# Altium footprint library Revo_element.PcbLib: 178 footprints (part 1 of 12)
Each footprint in its own frame and in the unit in brackets; x right, y up, seen from the top. Pads: shape width x height; smd on the part's side, far side on the other; paste and mask are expansions set on the pad; w line width, h text height; cw(c..) or ccw(c..) is an arc to the next point about the centre after c.
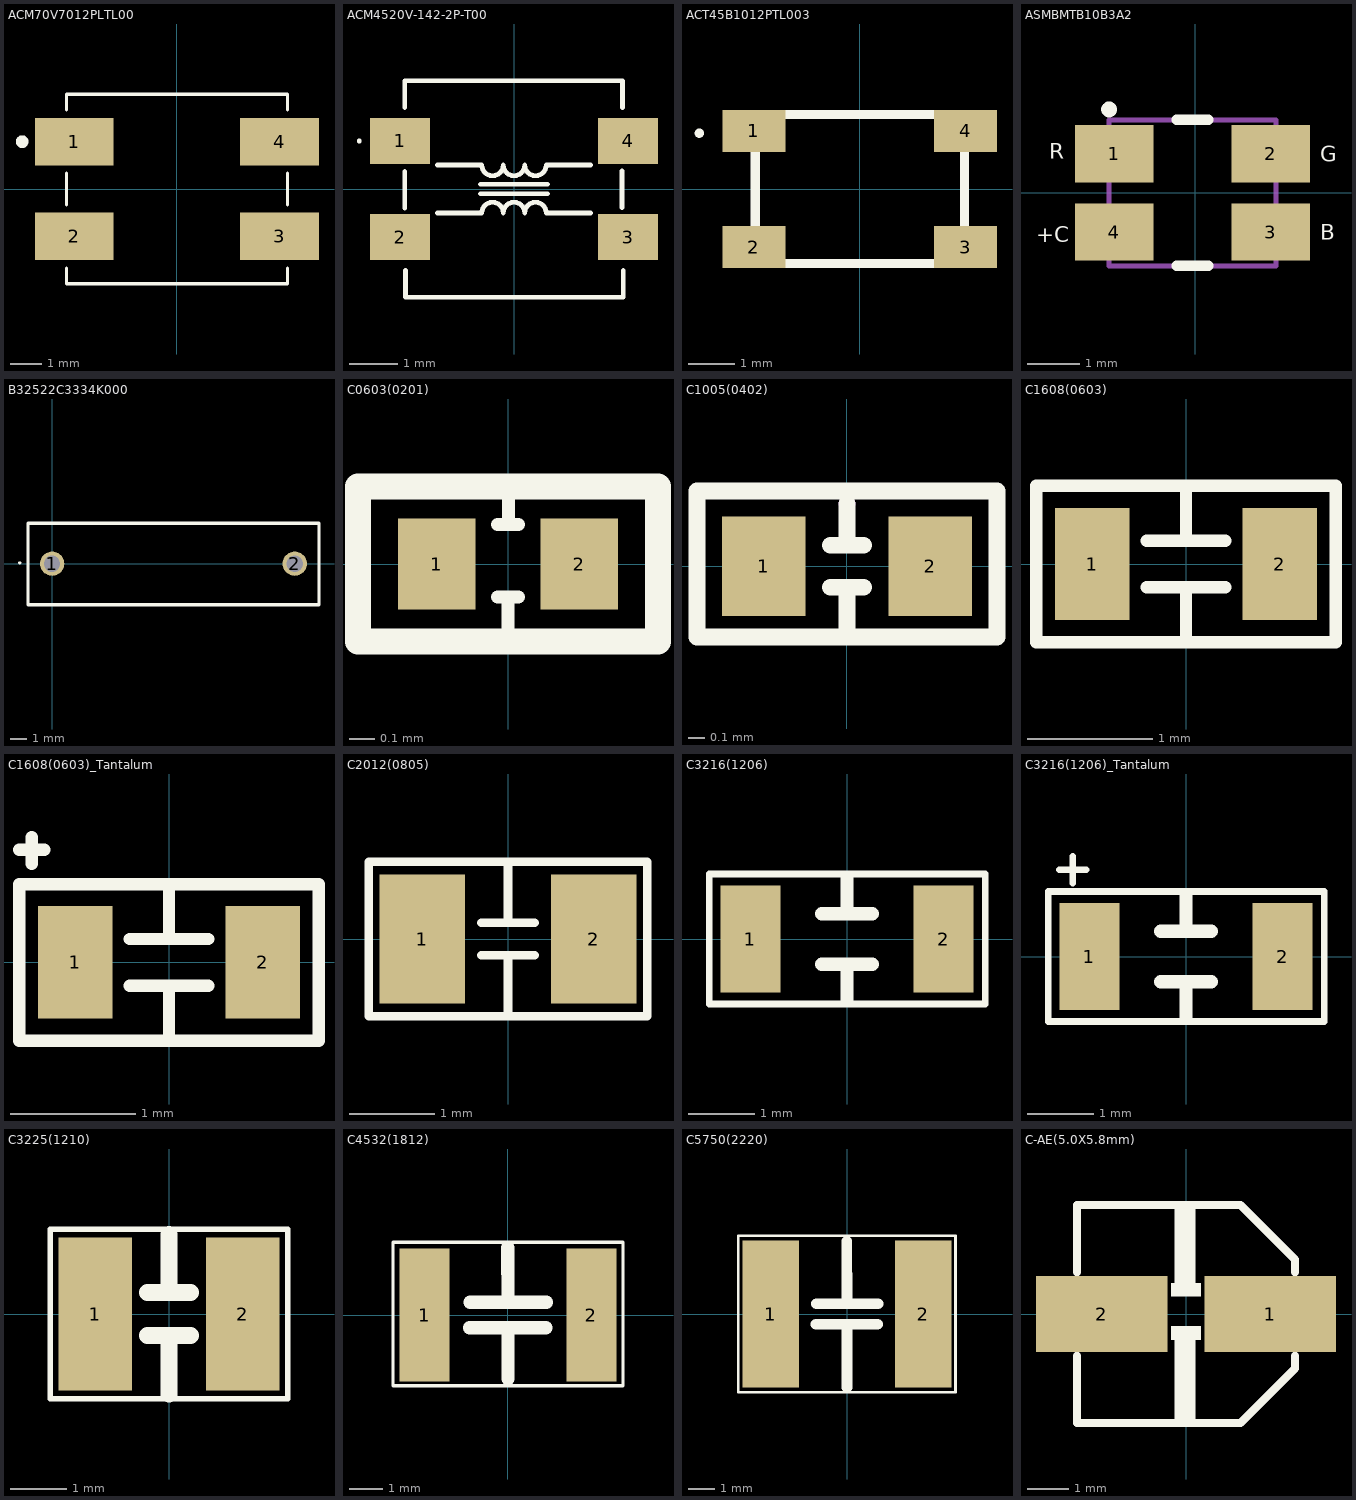
[diagram p0: the footprints below, top view; thin cyan lines are the x and y axes]

## ACM70V7012PLTL00 [mm]
pads (4):
  rect 2.5x1.5 smd: 1(-3.25,1.5) 2(-3.25,-1.5) 3(3.25,-1.5) 4(3.25,1.5)
Top Overlay:
  lines w0.1: -3.5,-2.5 -3.5,-3 3.5,-3 3.5,-2.5 ; -3.5,-0.5 -3.5,0.5 ; -3.5,2.5 -3.5,3 3.5,3 3.5,2.5 ; 3.5,-0.5 3.5,0.5
  lines w0.2: -4.9,1.4 cw(c-4.9,1.5) -4.9,1.6 cw(c-4.9,1.5) -4.9,1.4
3D body "ACM70V-701-2PL-TL00.stp": height 3.35, standoff 0, extent -3.553,-3.003 3.447,2.997

## ACM4520V-142-2P-T00 [mm]
pads (4):
  rect 1.25x0.95 smd: 1(-2.375,1) 2(-2.375,-1) 3(2.375,-1) 4(2.375,1)
Top Overlay:
  lines w0.05: -3.25,1 ccw(c-3.225,1) -3.2,1 ccw(c-3.225,1) -3.25,1
  lines w0.1: -2.275,-0.4 -2.275,0.362 ; -2.275,1.7 -2.275,2.254 2.258,2.254 2.258,1.7 ; -2.258,-1.7 -2.258,-2.254 2.275,-2.254 2.275,-1.7 ; -1.6,-0.5 -0.671,-0.5 cw(c-0.447,-0.5) -0.224,-0.5 cw(c0,-0.5) 0.224,-0.5 cw(c0.447,-0.5) 0.671,-0.5 1.6,-0.5 ; -1.6,0.5 -0.671,0.5 ccw(c-0.447,0.5) -0.224,0.5 ccw(c0,0.5) 0.224,0.5 ccw(c0.447,0.5) 0.671,0.5 1.6,0.5 ; -0.7,-0.1 0.7,-0.1 ; -0.7,0.1 0.7,0.1 ; 2.251,-0.385 2.251,0.376
3D body "ACM4520V-142-2P-T00.stp": height 1.9, standoff 0.01, extent -2.369,-2.248 2.331,2.252

## ACT45B1012PTL003 [mm]
pads (4):
  rect 1.35x0.9 smd: 1(-2.275,1.25) 2(-2.275,-1.25) 3(2.275,-1.25) 4(2.275,1.25)
Top Overlay:
  lines w0.1: -3.5,1.2 cw(c-3.45,1.2) -3.4,1.2 cw(c-3.45,1.2) -3.5,1.2
  lines w0.2: -2.25,-1.6 -2.25,1.6 2.25,1.6 2.25,-1.6 -2.25,-1.6
3D body "ACT45B-510-2P-TL003.stp": height 2.8, standoff 0, extent -2.224,-1.602 2.276,1.598

## ASMBMTB10B3A2 [mm]
pads (4):
  rect 1.5x1.1 smd: 1(-1.55,0.75) 2(1.45,0.75) 3(1.45,-0.75) 4(-1.55,-0.75)
Top Overlay:
  lines w0.2: -0.35,-1.4 0.25,-1.4 ; -0.35,1.4 0.25,1.4 ; -1.7,1.6 ccw(c-1.65,1.6) -1.6,1.6 ; -1.7,1.6 cw(c-1.65,1.6) -1.6,1.6 ; -1.7,1.6 ccw(c-1.65,1.6) -1.6,1.6
  text "R" at -2.8,0.65 h0.3
  text "G" at 2.4,0.6 h0.3
  text "+C" at -3.05,-0.95 h0.3
  text "B" at 2.4,-0.9 h0.3
Mechanical 13:
  lines w0.1: -1.65,-1.4 1.55,-1.4 1.55,1.4 -1.65,1.4 -1.65,-1.4
3D body "ASMB-MTB1-0B3A2.stp": height 1.9, standoff 0, extent -1.786,-1.4 1.686,1.4

## B32522C3334K000 [mm]
pads (2):
  round 1.5 hole 1: 1(0,0) 2(15,0)
Top Overlay:
  lines w0.1: -2,0 ccw(c-2,0.05) -2,0.1 ccw(c-2,0.05) -2,0
  lines w0.2: -1.5,-2.54 16.5,-2.54 16.5,2.5 -1.5,2.5 -1.5,-2.54
Mechanical 13:
  lines w0.1: -1.5,-2.5 16.5,-2.5 16.5,2.5 -1.5,2.5 -1.5,-2.5
3D body "B32522C3334K000.stp": height 10.41, standoff -6.09, extent -1.5,-2.5 16.5,2.5

## C0603(0201) [mm] "Chip Capacitor 0603(0201)"
pads (2):
  rect 0.3x0.35 smd: 1(-0.275,0) 2(0.275,0)
Top Overlay:
  lines w0.05: -0.04,-0.127 0.04,-0.127 ; -0.04,0.152 0.04,0.152 ; 0,-0.252 0,-0.127 ; 0.002,0.152 0.002,0.277
  lines w0.1: -0.58,-0.3 0.58,-0.3 0.58,0.3 -0.58,0.3 -0.58,-0.3
3D body "User Library-SMD CAPACITOR.step": height 0.29, standoff -0.01, extent -0.3,-0.15 0.3,0.15

## C1005(0402) [mm] "Chip Capacitor 1005(0402)"
pads (2):
  rect 0.5x0.6 smd: 1(-0.5,0) 2(0.5,0)
Top Overlay:
  lines w0.1: -0.1,-0.125 0.1,-0.125 ; -0.1,0.125 0.1,0.125 ; 0,-0.375 0,-0.25 0,-0.125 ; 0,0.125 0,0.375 ; -0.9,-0.425 -0.9,0.452 0.9,0.452 0.9,-0.425 -0.9,-0.425
Mechanical 13:
  lines w0.1: 0,0.375 0,0.375 ; 0,0.375 0,0.375
3D body "User Library-CAPC1005X06.step": height 0.6, standoff 0, extent -0.5,-0.25 0.5,0.25

## C1608(0603) [mm] "Chip Capacitor 1608(0603)"
pads (2):
  rect 0.6x0.9 smd: 1(-0.75,0) 2(0.75,0)
Top Overlay:
  lines w0.1: -0.312,-0.188 0.312,-0.188 ; -0.312,0.188 0.312,0.188 ; 0,-0.625 0,-0.188 ; 0,0.188 0,0.625 ; -1.2,-0.625 1.2,-0.625 1.2,0.625 -1.2,0.625 -1.2,-0.625
3D body "User Library-CAPC1608X09.step": height 0.9, standoff 0, extent -0.8,-0.4 0.8,0.4

## C1608(0603)_Tantalum [mm] "Chip Capacitor 1608(0603)"
pads (2):
  rect 0.6x0.9 smd: 1(-0.75,0) 2(0.75,0)
Top Overlay:
  lines w0.1: -1.2,0.9 -1,0.9 ; -1.1,0.788 -1.1,1 ; -0.312,-0.188 0.312,-0.188 ; -0.312,0.188 0.312,0.188 ; 0,-0.625 0,-0.188 ; 0,0.188 0,0.625 ; -1.2,-0.625 1.2,-0.625 1.2,0.625 -1.2,0.625 -1.2,-0.625
3D body "User Library-CAPC1608X09.step": height 0.9, standoff 0, extent -0.8,-0.4 0.8,0.4

## C2012(0805) [mm] "Chip Capacitor 2012(0805)"
pads (2):
  rect 1x1.5 smd: 1(-1,0) 2(1,0)
Top Overlay:
  lines w0.1: -0.312,-0.188 0.312,-0.188 ; -0.312,0.188 0.312,0.188 ; 0,-0.886 0,-0.188 ; 0,0.188 0,0.884 ; -1.625,-0.9 -1.625,0.9 1.625,0.9 1.625,-0.9 -1.625,-0.9
3D body "Ceramic_Capacitor_0805_h32mil.step": height 0.81, standoff 0.01, extent -1,-0.625 1,0.625

## C3216(1206) [mm] "Chip Capacitor 3216(1206)"
height 1.6
pads (2):
  rect 0.9x1.6 smd: 1(-1.45,0) 2(1.45,0)
Top Overlay:
  lines w0.1: -2.065,-0.975 -2.065,0.975 2.075,0.975 2.075,-0.975 -2.065,-0.975
  lines w0.2: -0.381,-0.381 0.381,-0.381 ; -0.381,0.381 0.381,0.381 ; 0,-0.925 0,-0.508 ; 0,0.508 0,0.925
3D body "User Library-CAPC3216X10.step": height 1, standoff 0, extent -1.6,-0.8 1.6,0.8

## C3216(1206)_Tantalum [mm] "Chip Capacitor 3216(1206)"
height 1.6
pads (2):
  rect 0.9x1.6 smd: 1(-1.45,0) 2(1.45,0)
Top Overlay:
  lines w0.1: -1.9,1.3 -1.5,1.3 ; -1.7,1.1 -1.7,1.5 ; -2.065,-0.975 2.075,-0.975 2.075,0.975 -2.065,0.975 -2.065,-0.975
  lines w0.2: -0.381,-0.381 0.381,-0.381 ; -0.381,0.381 0.381,0.381 ; 0,-0.925 0,-0.508 ; 0,0.508 0,0.925
3D body "User Library-CAPC3216X10.step": height 1, standoff 0, extent -1.6,-0.8 1.6,0.8

## C3225(1210) [mm] "Chip Capacitor 3225(1210)"
height 1.6
pads (2):
  rect 1.3x2.7 smd: 1(-1.3,0) 2(1.3,0)
Top Overlay:
  lines w0.1: -2.1,-1.5 2.1,-1.5 2.1,1.5 -2.1,1.5 -2.1,-1.5
  lines w0.3: -0.381,-0.381 0.381,-0.381 ; -0.381,0.381 0.381,0.381 ; 0,-1.413 0,-0.508 ; 0,0.508 0,1.409
3D body "Ceramic_Capacitor_1210_h50mil.step": height 1.26, standoff 0.01, extent -1.6,-1.25 1.6,1.25

## C4532(1812) [mm] "Chip Capacitor 4532(1812)"
pads (2):
  rect 1.5x4 smd: 1(-2.5,0) 2(2.5,0)
Top Overlay:
  lines w0.1: -3.45,-2.12 3.45,-2.12 3.45,2.185 -3.45,2.185 -3.45,-2.12
  lines w0.4: -1.157,-0.381 1.142,-0.381 ; -1.142,0.381 1.157,0.381 ; -0.004,2.015 -0.001,0.39 ; -0.001,-1.919 0.001,-0.39
3D body "c1812c475k5ractu.stp": height 1.79, standoff -0.01, extent -2.4,-1.75 2.4,1.75

## C5750(2220) [mm] "Chip Capacitor 5750(2220)"
pads (2):
  rect 2.1x5.5 smd: 1(-2.85,0) 2(2.85,0)
Top Overlay:
  lines w0.1: -4.062,-2.921 4.053,-2.921 4.053,2.921 -4.062,2.921 -4.062,-2.921
  lines w0.4: -1.157,-0.381 1.142,-0.381 ; -1.142,0.381 1.157,0.381 ; -0.005,2.721 -0.001,0.39 ; -0.003,-2.733 0.001,-0.39
3D body "csmd-2220_l5-72_w5_h2-54.stp": height 2.54, standoff 0, extent -2.86,-2.5 2.86,2.5

## C-AE(5.0X5.8mm) [mm] "SMD Capacitor (5.0X5.8mm)"
pads (2):
  rect 3.2x1.85 smd: 1(2.05,0) 2(-2.05,0)
Top Overlay:
  rectangle: -0.281,-2.667 0.227,-0.397
  region: 0.366,0.424 0.366,0.759 -0.365,0.759 -0.365,0.424
  rectangle: -0.281,0.431 0.227,2.667
  region: -0.366,-0.297 -0.366,-0.632 0.365,-0.632 0.365,-0.297
  lines w0.2: -2.65,-1.016 -2.65,-2.65 1.325,-2.65 2.65,-1.325 2.65,-1.016 ; -2.65,1.016 -2.65,2.65 1.325,2.65 2.65,1.325 2.65,1.016
3D body "UCM1E470MCL1GS.stp": height 6.1, standoff 0, extent -2.95,-2.75 2.95,2.75